# EAGLE library part TRR-2A-05-D00 (library MySTM32F103RGT6)
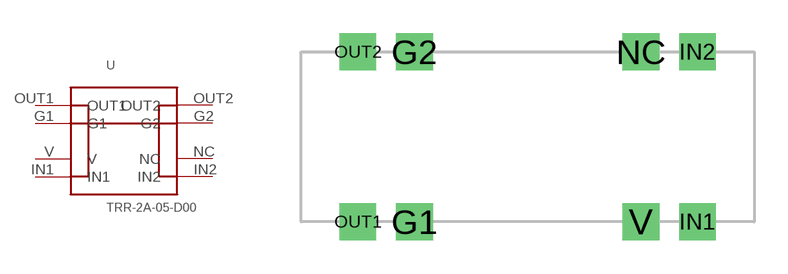
[diagram p3: symbol with the pads of TRR-2A-05-D00; footprint TRR-2A-05-D00]

Designator prefix -

## TRR-2A-05-D00  [TRR-2A-05-D00]
G1  G1
G2  G2
IN1  IN1
IN2  IN2
NC  NC
OUT1  OUT1
OUT2  OUT2
V  V

## Footprint TRR-2A-05-D00 (pad centres in mm)
drill 1.1 square: G1 -5.08,-2.54; G2 -5.08,5.08; IN1 7.62,-2.54; IN2 7.62,5.08; NC 5.08,5.08; OUT1 -7.62,-2.54; OUT2 -7.62,5.08; V 5.08,-2.54